# Altium integrated library NLSV2T244MUTAG.IntLib: 2 symbols
Pins are listed as number, name and electrical type; pins without a type are passive.

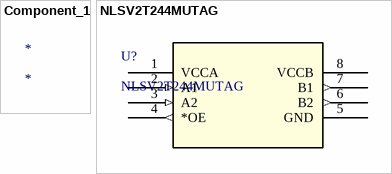
[diagram p0: symbols Component_1 to NLSV2T244MUTAG]

## Component_1
designator *

## NLSV2T244MUTAG
designator U?
No Description Available; Mfr_Name: onsemi; Copyright: Copyright (C) 2023 Ultra Librarian. All rights reserved.; Manufacturer_Part_Number: NLSV2T244MUTAG; RefDes: RefDes; Type: DEV
footprint UDFN8_1P20X1P80_ONS
pins: 1 VCCA (power), 2 A1 (in), 3 A2 (in), 4 *OE (out), 5 GND (power), 6 B2 (out), 7 B1 (out), 8 VCCB (power)